# Altium schematic symbol library LM78L12ACM_NOPB.SchLib: 1 symbol
Pins are listed as number, name and electrical type; pins without a type are passive.

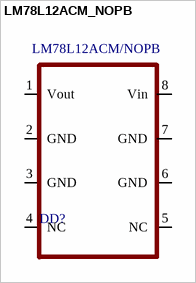
[diagram p0: symbol LM78L12ACM_NOPB]

## LM78L12ACM_NOPB
designator DD?
footprint Model Name (Footprint not found)
pins: 1 Vout, 2 GND, 3 GND, 4 NC, 5 NC, 6 GND, 7 GND, 8 Vin
text: LM78L12ACM/NOPB